# Altium schematic symbol library kmilo17pet-NSC_Switcher.SchLib: 2226 symbols (part 33 of 59)
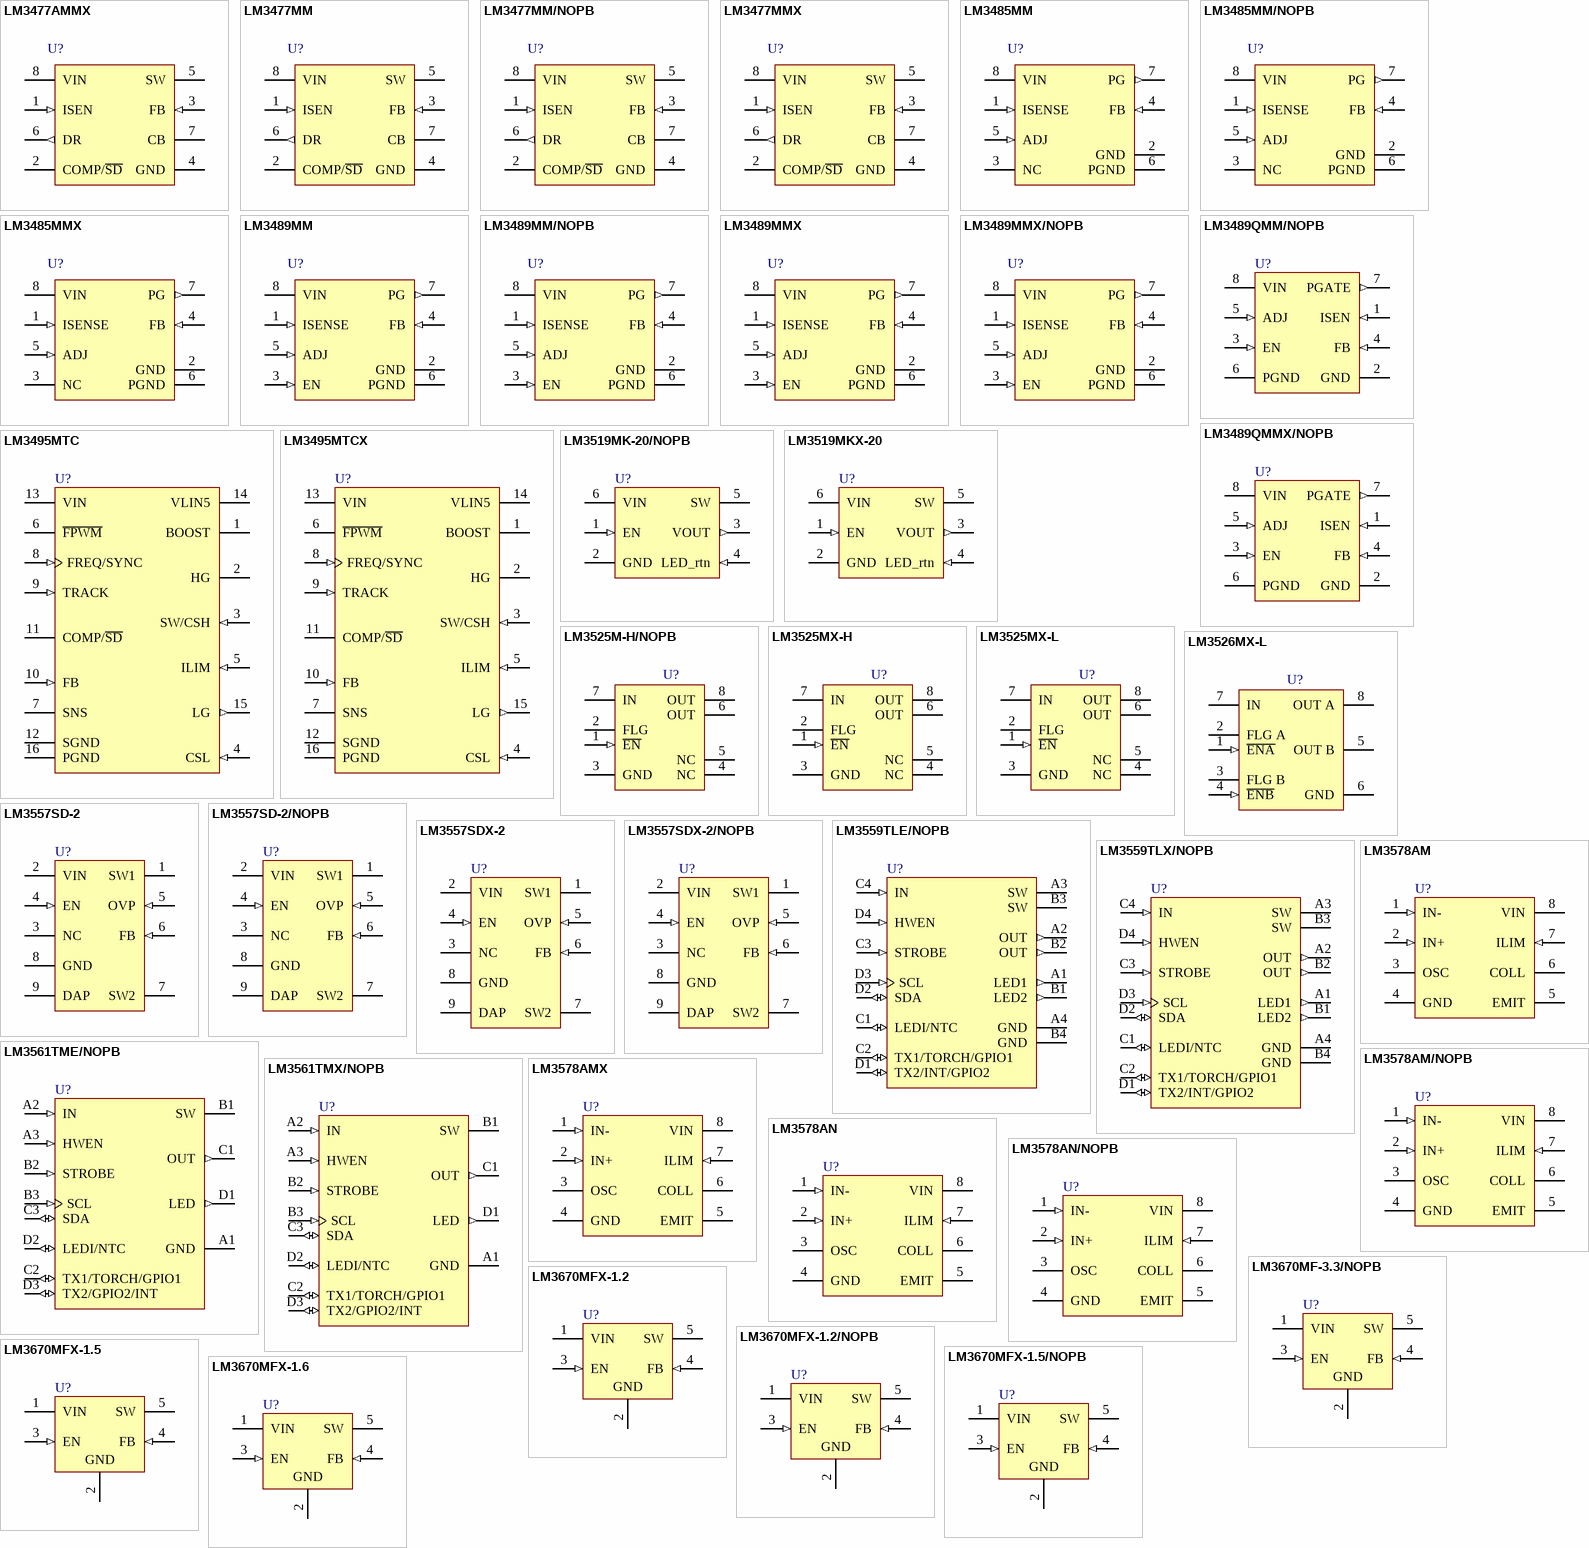
[diagram p101: symbols LM3477AMMX to LM3670MFX-1.6]

## LM3519MKX-20
designator U?
High Frequency Boost White LED Driver with High-Speed PWM Brightness Control, 6-pin Tiny SOT23; PartNumber: LM3519MKX-20; Manufacturer: National Semiconductor; PackageTopMarking: D52B*XTT; PowerWise: Y; CompType: Switcher; DatasheetVersion: Sep-2005; PackageVersion: revE, Nov-2008; PackageReference: MK06A; PackageDescription: Molded TSOT, 2.97 x 1.65 x 0.87mm Body, 6 Lead, 0.95mm Pitch; RoHS: N; PinCount: 6; High-Reliability: Y; Code_JEDEC: MO-193-AA; Code_IPC: SOT26A-6; ComponentLink1Description: Manufacturer URL; ComponentLink1URL: http://www.national.com/; ComponentLink2Description: LM3519 Datasheet; ComponentLink2URL: http://www.national.com/ds/LM/LM3519.pdf; ComponentLink3Description: LM3519 Web Page; ComponentLink3URL: http://www.national.com/pf/LM/LM3519.html; ComponentLink4Description: MK06A Package Page; ComponentLink4URL: http://www.national.com/packaging/folders/mk06a.html
footprint MK06A_N (SOT23, 6-Leads, Body 3.0x1.7mm, Pitch 0.95mm, Lead Span 2.9mm, IPC Medium Density)
footprint MK06A_L (SOT23, 6-Leads, Body 3.0x1.7mm, Pitch 0.95mm, Lead Span 2.9mm, IPC High Density)
footprint MK06A_M (SOT23, 6-Leads, Body 3.0x1.7mm, Pitch 0.95mm, Lead Span 2.9mm, IPC Low Density)
pins: 1 EN (in), 2 GND (power), 3 VOUT (out), 4 LED_rtn (in), 5 SW (power), 6 VIN (power)

## LM3525M-H/NOPB
designator U?
Single Port USB Power Switch and Over-current Protection, 8-pin Narrow SOIC, Pb-Free; PartNumber: LM3525M-H/NOPB; Manufacturer: National Semiconductor; PackageTopMarking: NSZXTT*3525*M-H; PowerWise: N; CompType: Switcher; High-Reliability: Y; DatasheetVersion: Mar-2005; PackageVersion: revM, May-2009; PackageReference: M08A; PackageDescription: SOIC Narrow, 4.9 x 3.9 x 1.45mm, 8 Lead, 1.27mm Pitch; RoHS: Y; PinCount: 8; Code_JEDEC: MS-012-AA; Code_IPC: SOIC127P600-8; ComponentLink1Description: Manufacturer URL; ComponentLink1URL: http://www.national.com/; ComponentLink2Description: LM3525 Datasheet; ComponentLink2URL: http://www.national.com/ds/LM/LM3525.pdf; ComponentLink3Description: LM3525 Web Page; ComponentLink3URL: http://www.national.com/pf/LM/LM3525.html; ComponentLink4Description: M08A Package Page; ComponentLink4URL: http://www.national.com/packaging/folders/m08a.html
footprint M08A_N (SOIC, 8-Leads, Body 4.9x3.9mm, Pitch 1.27mm, IPC Medium Density)
footprint M08A_L (SOIC, 8-Leads, Body 4.9x3.9mm, Pitch 1.27mm, IPC High Density)
footprint M08A_M (SOIC, 8-Leads, Body 4.9x3.9mm, Pitch 1.27mm, IPC Low Density)
pins: 1 ~{EN} (in), 2 FLG (oc), 3 GND (power), 4 NC, 5 NC, 6 OUT (power), 7 IN (power), 8 OUT (power)

## LM3525MX-H
designator U?
Single Port USB Power Switch and Over-current Protection, 8-pin Narrow SOIC; PartNumber: LM3525MX-H; Manufacturer: National Semiconductor; PackageTopMarking: NSZXTT*3525*M-H; PowerWise: N; CompType: Switcher; High-Reliability: Y; DatasheetVersion: Mar-2005; PackageVersion: revM, May-2009; PackageReference: M08A; PackageDescription: SOIC Narrow, 4.9 x 3.9 x 1.45mm, 8 Lead, 1.27mm Pitch; RoHS: N; PinCount: 8; Code_JEDEC: MS-012-AA; Code_IPC: SOIC127P600-8; ComponentLink1Description: Manufacturer URL; ComponentLink1URL: http://www.national.com/; ComponentLink2Description: LM3525 Datasheet; ComponentLink2URL: http://www.national.com/ds/LM/LM3525.pdf; ComponentLink3Description: LM3525 Web Page; ComponentLink3URL: http://www.national.com/pf/LM/LM3525.html; ComponentLink4Description: M08A Package Page; ComponentLink4URL: http://www.national.com/packaging/folders/m08a.html
footprint M08A_N (SOIC, 8-Leads, Body 4.9x3.9mm, Pitch 1.27mm, IPC Medium Density)
footprint M08A_L (SOIC, 8-Leads, Body 4.9x3.9mm, Pitch 1.27mm, IPC High Density)
footprint M08A_M (SOIC, 8-Leads, Body 4.9x3.9mm, Pitch 1.27mm, IPC Low Density)
pins: 1 ~{EN} (in), 2 FLG (oc), 3 GND (power), 4 NC, 5 NC, 6 OUT (power), 7 IN (power), 8 OUT (power)

## LM3525MX-L
designator U?
Single Port USB Power Switch and Over-current Protection, 8-pin Narrow SOIC; PartNumber: LM3525MX-L; Manufacturer: National Semiconductor; PackageTopMarking: NSZXTT*3525*M-L; PowerWise: N; CompType: Switcher; High-Reliability: Y; DatasheetVersion: Mar-2005; PackageVersion: revM, May-2009; PackageReference: M08A; PackageDescription: SOIC Narrow, 4.9 x 3.9 x 1.45mm, 8 Lead, 1.27mm Pitch; RoHS: N; PinCount: 8; Code_JEDEC: MS-012-AA; Code_IPC: SOIC127P600-8; ComponentLink1Description: Manufacturer URL; ComponentLink1URL: http://www.national.com/; ComponentLink2Description: LM3525 Datasheet; ComponentLink2URL: http://www.national.com/ds/LM/LM3525.pdf; ComponentLink3Description: LM3525 Web Page; ComponentLink3URL: http://www.national.com/pf/LM/LM3525.html; ComponentLink4Description: M08A Package Page; ComponentLink4URL: http://www.national.com/packaging/folders/m08a.html
footprint M08A_N (SOIC, 8-Leads, Body 4.9x3.9mm, Pitch 1.27mm, IPC Medium Density)
footprint M08A_L (SOIC, 8-Leads, Body 4.9x3.9mm, Pitch 1.27mm, IPC High Density)
footprint M08A_M (SOIC, 8-Leads, Body 4.9x3.9mm, Pitch 1.27mm, IPC Low Density)
pins: 1 ~{EN} (in), 2 FLG (oc), 3 GND (power), 4 NC, 5 NC, 6 OUT (power), 7 IN (power), 8 OUT (power)

## LM3526MX-L
designator U?
Dual Port USB Power Switch and Over-current Protection, 8-pin Narrow SOIC; PartNumber: LM3526MX-L; Manufacturer: National Semiconductor; PackageTopMarking: NSZXTT*3526*M-L; PowerWise: N; CompType: Switcher; High-Reliability: Y; DatasheetVersion: Mar-2005; PackageVersion: revM, May-2009; PackageReference: M08A; PackageDescription: SOIC Narrow, 4.9 x 3.9 x 1.45mm, 8 Lead, 1.27mm Pitch; RoHS: N; PinCount: 8; Code_JEDEC: MS-012-AA; Code_IPC: SOIC127P600-8; ComponentLink1Description: Manufacturer URL; ComponentLink1URL: http://www.national.com/; ComponentLink2Description: LM3526 Datasheet; ComponentLink2URL: http://www.national.com/ds/LM/LM3526.pdf; ComponentLink3Description: LM3526 Web Page; ComponentLink3URL: http://www.national.com/pf/LM/LM3526.html; ComponentLink4Description: M08A Package Page; ComponentLink4URL: http://www.national.com/packaging/folders/m08a.html
footprint M08A_N (SOIC, 8-Leads, Body 4.9x3.9mm, Pitch 1.27mm, IPC Medium Density)
footprint M08A_L (SOIC, 8-Leads, Body 4.9x3.9mm, Pitch 1.27mm, IPC High Density)
footprint M08A_M (SOIC, 8-Leads, Body 4.9x3.9mm, Pitch 1.27mm, IPC Low Density)
pins: 1 ~{ENA} (in), 2 FLG A (oc), 3 FLG B (oc), 4 ~{ENB} (in), 5 OUT B (power), 6 GND (power), 7 IN (power), 8 OUT A (power)

## LM3557SD-2
designator U?
Step-Up Converter for White LED Applications, 8-pin LLP; PartNumber: LM3557SD-2; Manufacturer: National Semiconductor; PackageTopMarking: ZXYTT*L147B; PowerWise: Y; CompType: Switcher; DatasheetVersion: May-2000; PackageVersion: revA, Aug-2003; PackageReference: SDA08A; PackageDescription: LLP, Plastic, Dual, 3 x 3 x 0.8mm Body, 8 Lead, 0.5mm Pitch, No Pullback; RoHS: N; PinCount: 8; High-Reliability: Y; ComponentLink1Description: Manufacturer URL; ComponentLink1URL: http://www.national.com/; ComponentLink2Description: LM3557 Datasheet; ComponentLink2URL: http://www.national.com/ds/LM/LM3557.pdf; ComponentLink3Description: LM3557 Web Page; ComponentLink3URL: http://www.national.com/pf/LM/LM3557.html; ComponentLink4Description: SDA08A Package Page; ComponentLink4URL: http://www.national.com/packaging/folders/sda08a.html
footprint SDA08A (SON, 8-Leads, Body 3x3mm, Pitch 0.5mm, NSC Recommended)
pins: 1 SW1 (power), 2 VIN (power), 3 NC, 4 EN (in), 5 OVP (in), 6 FB (in), 7 SW2 (power), 8 GND (power), 9 DAP (power)

## LM3557SD-2/NOPB
designator U?
Step-Up Converter for White LED Applications, 8-pin LLP, Pb-Free; PartNumber: LM3557SD-2/NOPB; Manufacturer: National Semiconductor; PackageTopMarking: ZXYTT*L147B; PowerWise: Y; CompType: Switcher; DatasheetVersion: May-2000; PackageVersion: revA, Aug-2003; PackageReference: SDA08A; PackageDescription: LLP, Plastic, Dual, 3 x 3 x 0.8mm Body, 8 Lead, 0.5mm Pitch, No Pullback; RoHS: Y; PinCount: 8; High-Reliability: Y; ComponentLink1Description: Manufacturer URL; ComponentLink1URL: http://www.national.com/; ComponentLink2Description: LM3557 Datasheet; ComponentLink2URL: http://www.national.com/ds/LM/LM3557.pdf; ComponentLink3Description: LM3557 Web Page; ComponentLink3URL: http://www.national.com/pf/LM/LM3557.html; ComponentLink4Description: SDA08A Package Page; ComponentLink4URL: http://www.national.com/packaging/folders/sda08a.html
footprint SDA08A (SON, 8-Leads, Body 3x3mm, Pitch 0.5mm, NSC Recommended)
pins: 1 SW1 (power), 2 VIN (power), 3 NC, 4 EN (in), 5 OVP (in), 6 FB (in), 7 SW2 (power), 8 GND (power), 9 DAP (power)

## LM3557SDX-2
designator U?
Step-Up Converter for White LED Applications, 8-pin LLP; PartNumber: LM3557SDX-2; Manufacturer: National Semiconductor; PackageTopMarking: ZXYTT*L147B; PowerWise: Y; CompType: Switcher; DatasheetVersion: May-2000; PackageVersion: revA, Aug-2003; PackageReference: SDA08A; PackageDescription: LLP, Plastic, Dual, 3 x 3 x 0.8mm Body, 8 Lead, 0.5mm Pitch, No Pullback; RoHS: N; PinCount: 8; High-Reliability: Y; ComponentLink1Description: Manufacturer URL; ComponentLink1URL: http://www.national.com/; ComponentLink2Description: LM3557 Datasheet; ComponentLink2URL: http://www.national.com/ds/LM/LM3557.pdf; ComponentLink3Description: LM3557 Web Page; ComponentLink3URL: http://www.national.com/pf/LM/LM3557.html; ComponentLink4Description: SDA08A Package Page; ComponentLink4URL: http://www.national.com/packaging/folders/sda08a.html
footprint SDA08A (SON, 8-Leads, Body 3x3mm, Pitch 0.5mm, NSC Recommended)
pins: 1 SW1 (power), 2 VIN (power), 3 NC, 4 EN (in), 5 OVP (in), 6 FB (in), 7 SW2 (power), 8 GND (power), 9 DAP (power)

## LM3557SDX-2/NOPB
designator U?
Step-Up Converter for White LED Applications, 8-pin LLP, Pb-Free; PartNumber: LM3557SDX-2/NOPB; Manufacturer: National Semiconductor; PackageTopMarking: ZXYTT*L147B; PowerWise: Y; CompType: Switcher; DatasheetVersion: May-2000; PackageVersion: revA, Aug-2003; PackageReference: SDA08A; PackageDescription: LLP, Plastic, Dual, 3 x 3 x 0.8mm Body, 8 Lead, 0.5mm Pitch, No Pullback; RoHS: Y; PinCount: 8; High-Reliability: Y; ComponentLink1Description: Manufacturer URL; ComponentLink1URL: http://www.national.com/; ComponentLink2Description: LM3557 Datasheet; ComponentLink2URL: http://www.national.com/ds/LM/LM3557.pdf; ComponentLink3Description: LM3557 Web Page; ComponentLink3URL: http://www.national.com/pf/LM/LM3557.html; ComponentLink4Description: SDA08A Package Page; ComponentLink4URL: http://www.national.com/packaging/folders/sda08a.html
footprint SDA08A (SON, 8-Leads, Body 3x3mm, Pitch 0.5mm, NSC Recommended)
pins: 1 SW1 (power), 2 VIN (power), 3 NC, 4 EN (in), 5 OVP (in), 6 FB (in), 7 SW2 (power), 8 GND (power), 9 DAP (power)

## LM3559TLE/NOPB
designator U?
Synchronous Boost Flash Driver with Dual 900 mA High Side Current Sources (1.8A Total Flash Current), 16-pin Micro SMD, 250 Reel; PartNumber: LM3559TLE/NOPB; Manufacturer: National Semiconductor; PackageTopMarking: XYTT*I 3559; PowerWise: N; CompType: Switcher; High-Reliability: Y; DatasheetVersion: Jun-2011; PackageVersion: revC, Jan-2004; PackageReference: TLA1611A; PackageDescription: Thin Micro SMD, 16 Bump (Large), 0.5mm Pitch; RoHS: Y; PinCount: 16; Code_JEDEC: MO-211-DF; ComponentLink1Description: Manufacturer URL; ComponentLink1URL: http://www.national.com/; ComponentLink2Description: LM3559 Datasheet; ComponentLink2URL: http://www.national.com/ds/LM/LM3559.pdf; ComponentLink3Description: LM3559 Web Page; ComponentLink3URL: http://www.national.com/pf/LM/LM3559.html; ComponentLink4Description: TLA1611A Package Page; ComponentLink4URL: http://www.national.com/packaging/folders/tla1611a.html
footprint TLA1611A (Micro SMD, 16-Leads, Body 1.97x1.97mm, Pitch 0.5mm, NSC Recommended)
pins: A1 LED1 (out), A2 OUT (out), A3 SW, A4 GND (power), B1 LED2 (out), B2 OUT (out), B3 SW, B4 GND (power), C1 LEDI/NTC (io), C2 TX1/TORCH/GPIO1 (io), C3 STROBE (in), C4 IN (in), D1 TX2/INT/GPIO2 (io), D2 SDA (io), D3 SCL (in), D4 HWEN (in)

## LM3559TLX/NOPB
designator U?
Synchronous Boost Flash Driver with Dual 900 mA High Side Current Sources (1.8A Total Flash Current), 16-pin Micro SMD, 3000 Reel; PartNumber: LM3559TLX/NOPB; Manufacturer: National Semiconductor; PackageTopMarking: XYTT*I 3559; PowerWise: N; CompType: Switcher; High-Reliability: Y; DatasheetVersion: Jun-2011; PackageVersion: revC, Jan-2004; PackageReference: TLA1611A; PackageDescription: Thin Micro SMD, 16 Bump (Large), 0.5mm Pitch; RoHS: Y; PinCount: 16; Code_JEDEC: MO-211-DF; ComponentLink1Description: Manufacturer URL; ComponentLink1URL: http://www.national.com/; ComponentLink2Description: LM3559 Datasheet; ComponentLink2URL: http://www.national.com/ds/LM/LM3559.pdf; ComponentLink3Description: LM3559 Web Page; ComponentLink3URL: http://www.national.com/pf/LM/LM3559.html; ComponentLink4Description: TLA1611A Package Page; ComponentLink4URL: http://www.national.com/packaging/folders/tla1611a.html
footprint TLA1611A (Micro SMD, 16-Leads, Body 1.97x1.97mm, Pitch 0.5mm, NSC Recommended)
pins: A1 LED1 (out), A2 OUT (out), A3 SW, A4 GND (power), B1 LED2 (out), B2 OUT (out), B3 SW, B4 GND (power), C1 LEDI/NTC (io), C2 TX1/TORCH/GPIO1 (io), C3 STROBE (in), C4 IN (in), D1 TX2/INT/GPIO2 (io), D2 SDA (io), D3 SCL (in), D4 HWEN (in)

## LM3561TME/NOPB
designator U?
Synchronous Boost Converter with 600mA High Side LED Driver and I2C-Compatible Interface, 12-pin Micro SMD, 250 Reel; PartNumber: LM3561TME/NOPB; Manufacturer: National Semiconductor; PackageTopMarking: XV*I DV; PowerWise: N; CompType: Switcher; High-Reliability: Y; DatasheetVersion: Jun-2011; PackageVersion: revA, 2008; PackageReference: TMD12AAA; PackageDescription: Thin Micro SMD, 12 Bump, 0.4mm Pitch; RoHS: Y; PinCount: 12; ComponentLink1Description: Manufacturer URL; ComponentLink1URL: http://www.national.com/; ComponentLink2Description: LM3561 Datasheet; ComponentLink2URL: http://www.national.com/ds/LM/LM3561.pdf; ComponentLink3Description: LM3561 Web Page; ComponentLink3URL: http://www.national.com/pf/LM/LM3561.html; ComponentLink4Description: TMD12AAA Package Page; ComponentLink4URL: http://www.national.com/packaging/folders/tmd12aaa.html
footprint TMD12AAA (Micro SMD, 12-Leads, Body 1.62x1.22mm, Pitch 0.4mm, NSC Recommended)
pins: A1 GND (power), A2 IN (in), A3 HWEN (in), B1 SW, B2 STROBE (in), B3 SCL (in), C1 OUT (out), C2 TX1/TORCH/GPIO1 (io), C3 SDA (io), D1 LED (out), D2 LEDI/NTC (io), D3 TX2/GPIO2/INT (io)

## LM3561TMX/NOPB
designator U?
Synchronous Boost Converter with 600mA High Side LED Driver and I2C-Compatible Interface, 12-pin Micro SMD, 3000 Reel; PartNumber: LM3561TMX/NOPB; Manufacturer: National Semiconductor; PackageTopMarking: XV*I DV; PowerWise: N; CompType: Switcher; High-Reliability: Y; DatasheetVersion: Jun-2011; PackageVersion: revA, 2008; PackageReference: TMD12AAA; PackageDescription: Thin Micro SMD, 12 Bump, 0.4mm Pitch; RoHS: Y; PinCount: 12; ComponentLink1Description: Manufacturer URL; ComponentLink1URL: http://www.national.com/; ComponentLink2Description: LM3561 Datasheet; ComponentLink2URL: http://www.national.com/ds/LM/LM3561.pdf; ComponentLink3Description: LM3561 Web Page; ComponentLink3URL: http://www.national.com/pf/LM/LM3561.html; ComponentLink4Description: TMD12AAA Package Page; ComponentLink4URL: http://www.national.com/packaging/folders/tmd12aaa.html
footprint TMD12AAA (Micro SMD, 12-Leads, Body 1.62x1.22mm, Pitch 0.4mm, NSC Recommended)
pins: A1 GND (power), A2 IN (in), A3 HWEN (in), B1 SW, B2 STROBE (in), B3 SCL (in), C1 OUT (out), C2 TX1/TORCH/GPIO1 (io), C3 SDA (io), D1 LED (out), D2 LEDI/NTC (io), D3 TX2/GPIO2/INT (io)

## LM3578AM
designator U?
Switching Regulator, 8-pin Narrow SOIC; PartNumber: LM3578AM; Manufacturer: National Semiconductor; PackageTopMarking: NSZXTT*3578*AM; PowerWise: N; CompType: Switcher; High-Reliability: Y; DatasheetVersion: Feb-2005; PackageVersion: revM, May-2009; PackageReference: M08A; PackageDescription: SOIC Narrow, 4.9 x 3.9 x 1.45mm, 8 Lead, 1.27mm Pitch; RoHS: N; PinCount: 8; Code_JEDEC: MS-012-AA; Code_IPC: SOIC127P600-8; ComponentLink1Description: Manufacturer URL; ComponentLink1URL: http://www.national.com/; ComponentLink2Description: LM3578A Datasheet; ComponentLink2URL: http://www.national.com/ds/LM/LM3578A.pdf; ComponentLink3Description: LM3578A Web Page; ComponentLink3URL: http://www.national.com/pf/LM/LM3578A.html; ComponentLink4Description: M08A Package Page; ComponentLink4URL: http://www.national.com/packaging/folders/m08a.html
footprint M08A_N (SOIC, 8-Leads, Body 4.9x3.9mm, Pitch 1.27mm, IPC Medium Density)
footprint M08A_L (SOIC, 8-Leads, Body 4.9x3.9mm, Pitch 1.27mm, IPC High Density)
footprint M08A_M (SOIC, 8-Leads, Body 4.9x3.9mm, Pitch 1.27mm, IPC Low Density)
pins: 1 IN- (in), 2 IN+ (in), 3 OSC, 4 GND (power), 5 EMIT (oe), 6 COLL (oc), 7 ILIM (in), 8 VIN (power)

## LM3578AM/NOPB
designator U?
Switching Regulator, 8-pin Narrow SOIC, Pb-Free; PartNumber: LM3578AM/NOPB; Manufacturer: National Semiconductor; PackageTopMarking: NSZXTT*3578*AM; PowerWise: N; CompType: Switcher; High-Reliability: Y; DatasheetVersion: Feb-2005; PackageVersion: revM, May-2009; PackageReference: M08A; PackageDescription: SOIC Narrow, 4.9 x 3.9 x 1.45mm, 8 Lead, 1.27mm Pitch; RoHS: Y; PinCount: 8; Code_JEDEC: MS-012-AA; Code_IPC: SOIC127P600-8; ComponentLink1Description: Manufacturer URL; ComponentLink1URL: http://www.national.com/; ComponentLink2Description: LM3578A Datasheet; ComponentLink2URL: http://www.national.com/ds/LM/LM3578A.pdf; ComponentLink3Description: LM3578A Web Page; ComponentLink3URL: http://www.national.com/pf/LM/LM3578A.html; ComponentLink4Description: M08A Package Page; ComponentLink4URL: http://www.national.com/packaging/folders/m08a.html
footprint M08A_N (SOIC, 8-Leads, Body 4.9x3.9mm, Pitch 1.27mm, IPC Medium Density)
footprint M08A_L (SOIC, 8-Leads, Body 4.9x3.9mm, Pitch 1.27mm, IPC High Density)
footprint M08A_M (SOIC, 8-Leads, Body 4.9x3.9mm, Pitch 1.27mm, IPC Low Density)
pins: 1 IN- (in), 2 IN+ (in), 3 OSC, 4 GND (power), 5 EMIT (oe), 6 COLL (oc), 7 ILIM (in), 8 VIN (power)

## LM3578AMX
designator U?
Switching Regulator, 8-pin Narrow SOIC; PartNumber: LM3578AMX; Manufacturer: National Semiconductor; PackageTopMarking: NSZXTT*3578*AM; PowerWise: N; CompType: Switcher; High-Reliability: Y; DatasheetVersion: Feb-2005; PackageVersion: revM, May-2009; PackageReference: M08A; PackageDescription: SOIC Narrow, 4.9 x 3.9 x 1.45mm, 8 Lead, 1.27mm Pitch; RoHS: N; PinCount: 8; Code_JEDEC: MS-012-AA; Code_IPC: SOIC127P600-8; ComponentLink1Description: Manufacturer URL; ComponentLink1URL: http://www.national.com/; ComponentLink2Description: LM3578A Datasheet; ComponentLink2URL: http://www.national.com/ds/LM/LM3578A.pdf; ComponentLink3Description: LM3578A Web Page; ComponentLink3URL: http://www.national.com/pf/LM/LM3578A.html; ComponentLink4Description: M08A Package Page; ComponentLink4URL: http://www.national.com/packaging/folders/m08a.html
footprint M08A_N (SOIC, 8-Leads, Body 4.9x3.9mm, Pitch 1.27mm, IPC Medium Density)
footprint M08A_L (SOIC, 8-Leads, Body 4.9x3.9mm, Pitch 1.27mm, IPC High Density)
footprint M08A_M (SOIC, 8-Leads, Body 4.9x3.9mm, Pitch 1.27mm, IPC Low Density)
pins: 1 IN- (in), 2 IN+ (in), 3 OSC, 4 GND (power), 5 EMIT (oe), 6 COLL (oc), 7 ILIM (in), 8 VIN (power)

## LM3578AN
designator U?
Switching Regulator, 8-pin MDIP; PartNumber: LM3578AN; Manufacturer: National Semiconductor; PackageTopMarking: NSUZXYTTE#*LM3578AN; PowerWise: N; CompType: Switcher; High-Reliability: Y; DatasheetVersion: Feb-2005; PackageVersion: revG, May-2006; PackageReference: N08E; PackageDescription: MDIP, .365 x .250 x .130in, 8 Lead, .100in Pitch; RoHS: N; PinCount: 8; Code_JEDEC: MS-001-BA; ComponentLink1Description: Manufacturer URL; ComponentLink1URL: http://www.national.com/; ComponentLink2Description: LM3578A Datasheet; ComponentLink2URL: http://www.national.com/ds/LM/LM3578A.pdf; ComponentLink3Description: LM3578A Web Page; ComponentLink3URL: http://www.national.com/pf/LM/LM3578A.html; ComponentLink4Description: N08E Package Page; ComponentLink4URL: http://www.national.com/packaging/folders/n08e.html
footprint N08E (DIP, 8-Leads, Row Spacing 7.62mm, Pitch 2.54mm, Body 9.91x6.35mm)
pins: 1 IN- (in), 2 IN+ (in), 3 OSC, 4 GND (power), 5 EMIT (oe), 6 COLL (oc), 7 ILIM (in), 8 VIN (power)

## LM3578AN/NOPB
designator U?
Switching Regulator, 8-pin MDIP, Pb-Free; PartNumber: LM3578AN/NOPB; Manufacturer: National Semiconductor; PackageTopMarking: NSUZXYTTE#*LM3578AN; PowerWise: N; CompType: Switcher; High-Reliability: Y; DatasheetVersion: Feb-2005; PackageVersion: revG, May-2006; PackageReference: N08E; PackageDescription: MDIP, .365 x .250 x .130in, 8 Lead, .100in Pitch; RoHS: Y; PinCount: 8; Code_JEDEC: MS-001-BA; ComponentLink1Description: Manufacturer URL; ComponentLink1URL: http://www.national.com/; ComponentLink2Description: LM3578A Datasheet; ComponentLink2URL: http://www.national.com/ds/LM/LM3578A.pdf; ComponentLink3Description: LM3578A Web Page; ComponentLink3URL: http://www.national.com/pf/LM/LM3578A.html; ComponentLink4Description: N08E Package Page; ComponentLink4URL: http://www.national.com/packaging/folders/n08e.html
footprint N08E (DIP, 8-Leads, Row Spacing 7.62mm, Pitch 2.54mm, Body 9.91x6.35mm)
pins: 1 IN- (in), 2 IN+ (in), 3 OSC, 4 GND (power), 5 EMIT (oe), 6 COLL (oc), 7 ILIM (in), 8 VIN (power)

## LM3670MF-3.3/NOPB
designator U?
Miniature Step-Down DC-DC Converter for Ultra Low Voltage Circuits, 5-pin SOT-23, Pb-Free; PartNumber: LM3670MF-3.3/NOPB; Manufacturer: National Semiconductor; PackageTopMarking: SDEB*XTT; PowerWise: Y; CompType: Switcher; DatasheetVersion: Jan-2006; PackageVersion: revD, Aug-2008; PackageReference: MF05A; PackageDescription: Molded SOT-23, .115 x .063 x .040 in Body, 5 Lead, .0375 in Pitch; RoHS: Y; PinCount: 5; High-Reliability: Y; ComponentLink1Description: Manufacturer URL; ComponentLink1URL: http://www.national.com/; ComponentLink2Description: LM3670 Datasheet; ComponentLink2URL: http://www.national.com/ds/LM/LM3670.pdf; ComponentLink3Description: LM3670 Web Page; ComponentLink3URL: http://www.national.com/pf/LM/LM3670.html; ComponentLink4Description: MF05A Package Page; ComponentLink4URL: http://www.national.com/packaging/folders/mf05a.html
footprint MF05A_N (SOT23, 5-Leads, Body 2.9x1.6mm, Pitch 0.95mm, Lead Span 2.8mm, IPC Medium Density)
footprint MF05A_L (SOT23, 5-Leads, Body 2.9x1.6mm, Pitch 0.95mm, Lead Span 2.8mm, IPC High Density)
footprint MF05A_M (SOT23, 5-Leads, Body 2.9x1.6mm, Pitch 0.95mm, Lead Span 2.8mm, IPC Low Density)
pins: 1 VIN (power), 2 GND (power), 3 EN (in), 4 FB (in), 5 SW (power)

## LM3670MFX-1.2
designator U?
Miniature Step-Down DC-DC Converter for Ultra Low Voltage Circuits, 5-pin SOT-23; PartNumber: LM3670MFX-1.2; Manufacturer: National Semiconductor; PackageTopMarking: SCZB*XTT; PowerWise: Y; CompType: Switcher; DatasheetVersion: Jan-2006; PackageVersion: revD, Aug-2008; PackageReference: MF05A; PackageDescription: Molded SOT-23, .115 x .063 x .040 in Body, 5 Lead, .0375 in Pitch; RoHS: N; PinCount: 5; High-Reliability: Y; ComponentLink1Description: Manufacturer URL; ComponentLink1URL: http://www.national.com/; ComponentLink2Description: LM3670 Datasheet; ComponentLink2URL: http://www.national.com/ds/LM/LM3670.pdf; ComponentLink3Description: LM3670 Web Page; ComponentLink3URL: http://www.national.com/pf/LM/LM3670.html; ComponentLink4Description: MF05A Package Page; ComponentLink4URL: http://www.national.com/packaging/folders/mf05a.html
footprint MF05A_N (SOT23, 5-Leads, Body 2.9x1.6mm, Pitch 0.95mm, Lead Span 2.8mm, IPC Medium Density)
footprint MF05A_L (SOT23, 5-Leads, Body 2.9x1.6mm, Pitch 0.95mm, Lead Span 2.8mm, IPC High Density)
footprint MF05A_M (SOT23, 5-Leads, Body 2.9x1.6mm, Pitch 0.95mm, Lead Span 2.8mm, IPC Low Density)
pins: 1 VIN (power), 2 GND (power), 3 EN (in), 4 FB (in), 5 SW (power)

## LM3670MFX-1.2/NOPB
designator U?
Miniature Step-Down DC-DC Converter for Ultra Low Voltage Circuits, 5-pin SOT-23, Pb-Free; PartNumber: LM3670MFX-1.2/NOPB; Manufacturer: National Semiconductor; PackageTopMarking: SCZB*XTT; PowerWise: Y; CompType: Switcher; DatasheetVersion: Jan-2006; PackageVersion: revD, Aug-2008; PackageReference: MF05A; PackageDescription: Molded SOT-23, .115 x .063 x .040 in Body, 5 Lead, .0375 in Pitch; RoHS: Y; PinCount: 5; High-Reliability: Y; ComponentLink1Description: Manufacturer URL; ComponentLink1URL: http://www.national.com/; ComponentLink2Description: LM3670 Datasheet; ComponentLink2URL: http://www.national.com/ds/LM/LM3670.pdf; ComponentLink3Description: LM3670 Web Page; ComponentLink3URL: http://www.national.com/pf/LM/LM3670.html; ComponentLink4Description: MF05A Package Page; ComponentLink4URL: http://www.national.com/packaging/folders/mf05a.html
footprint MF05A_N (SOT23, 5-Leads, Body 2.9x1.6mm, Pitch 0.95mm, Lead Span 2.8mm, IPC Medium Density)
footprint MF05A_L (SOT23, 5-Leads, Body 2.9x1.6mm, Pitch 0.95mm, Lead Span 2.8mm, IPC High Density)
footprint MF05A_M (SOT23, 5-Leads, Body 2.9x1.6mm, Pitch 0.95mm, Lead Span 2.8mm, IPC Low Density)
pins: 1 VIN (power), 2 GND (power), 3 EN (in), 4 FB (in), 5 SW (power)

## LM3670MFX-1.5
designator U?
Miniature Step-Down DC-DC Converter for Ultra Low Voltage Circuits, 5-pin SOT-23; PartNumber: LM3670MFX-1.5; Manufacturer: National Semiconductor; PackageTopMarking: S82B*XTT; PowerWise: Y; CompType: Switcher; DatasheetVersion: Jan-2006; PackageVersion: revD, Aug-2008; PackageReference: MF05A; PackageDescription: Molded SOT-23, .115 x .063 x .040 in Body, 5 Lead, .0375 in Pitch; RoHS: N; PinCount: 5; High-Reliability: Y; ComponentLink1Description: Manufacturer URL; ComponentLink1URL: http://www.national.com/; ComponentLink2Description: LM3670 Datasheet; ComponentLink2URL: http://www.national.com/ds/LM/LM3670.pdf; ComponentLink3Description: LM3670 Web Page; ComponentLink3URL: http://www.national.com/pf/LM/LM3670.html; ComponentLink4Description: MF05A Package Page; ComponentLink4URL: http://www.national.com/packaging/folders/mf05a.html
footprint MF05A_N (SOT23, 5-Leads, Body 2.9x1.6mm, Pitch 0.95mm, Lead Span 2.8mm, IPC Medium Density)
footprint MF05A_L (SOT23, 5-Leads, Body 2.9x1.6mm, Pitch 0.95mm, Lead Span 2.8mm, IPC High Density)
footprint MF05A_M (SOT23, 5-Leads, Body 2.9x1.6mm, Pitch 0.95mm, Lead Span 2.8mm, IPC Low Density)
pins: 1 VIN (power), 2 GND (power), 3 EN (in), 4 FB (in), 5 SW (power)

## LM3670MFX-1.5/NOPB
designator U?
Miniature Step-Down DC-DC Converter for Ultra Low Voltage Circuits, 5-pin SOT-23, Pb-Free; PartNumber: LM3670MFX-1.5/NOPB; Manufacturer: National Semiconductor; PackageTopMarking: S82B*XTT; PowerWise: Y; CompType: Switcher; DatasheetVersion: Jan-2006; PackageVersion: revD, Aug-2008; PackageReference: MF05A; PackageDescription: Molded SOT-23, .115 x .063 x .040 in Body, 5 Lead, .0375 in Pitch; RoHS: Y; PinCount: 5; High-Reliability: Y; ComponentLink1Description: Manufacturer URL; ComponentLink1URL: http://www.national.com/; ComponentLink2Description: LM3670 Datasheet; ComponentLink2URL: http://www.national.com/ds/LM/LM3670.pdf; ComponentLink3Description: LM3670 Web Page; ComponentLink3URL: http://www.national.com/pf/LM/LM3670.html; ComponentLink4Description: MF05A Package Page; ComponentLink4URL: http://www.national.com/packaging/folders/mf05a.html
footprint MF05A_N (SOT23, 5-Leads, Body 2.9x1.6mm, Pitch 0.95mm, Lead Span 2.8mm, IPC Medium Density)
footprint MF05A_L (SOT23, 5-Leads, Body 2.9x1.6mm, Pitch 0.95mm, Lead Span 2.8mm, IPC High Density)
footprint MF05A_M (SOT23, 5-Leads, Body 2.9x1.6mm, Pitch 0.95mm, Lead Span 2.8mm, IPC Low Density)
pins: 1 VIN (power), 2 GND (power), 3 EN (in), 4 FB (in), 5 SW (power)

## LM3670MFX-1.6
designator U?
Miniature Step-Down DC-DC Converter for Ultra Low Voltage Circuits, 5-pin SOT-23; PartNumber: LM3670MFX-1.6; Manufacturer: National Semiconductor; PackageTopMarking: SDBB*XTT; PowerWise: Y; CompType: Switcher; DatasheetVersion: Jan-2006; PackageVersion: revD, Aug-2008; PackageReference: MF05A; PackageDescription: Molded SOT-23, .115 x .063 x .040 in Body, 5 Lead, .0375 in Pitch; RoHS: N; PinCount: 5; High-Reliability: Y; ComponentLink1Description: Manufacturer URL; ComponentLink1URL: http://www.national.com/; ComponentLink2Description: LM3670 Datasheet; ComponentLink2URL: http://www.national.com/ds/LM/LM3670.pdf; ComponentLink3Description: LM3670 Web Page; ComponentLink3URL: http://www.national.com/pf/LM/LM3670.html; ComponentLink4Description: MF05A Package Page; ComponentLink4URL: http://www.national.com/packaging/folders/mf05a.html
footprint MF05A_N (SOT23, 5-Leads, Body 2.9x1.6mm, Pitch 0.95mm, Lead Span 2.8mm, IPC Medium Density)
footprint MF05A_L (SOT23, 5-Leads, Body 2.9x1.6mm, Pitch 0.95mm, Lead Span 2.8mm, IPC High Density)
footprint MF05A_M (SOT23, 5-Leads, Body 2.9x1.6mm, Pitch 0.95mm, Lead Span 2.8mm, IPC Low Density)
pins: 1 VIN (power), 2 GND (power), 3 EN (in), 4 FB (in), 5 SW (power)

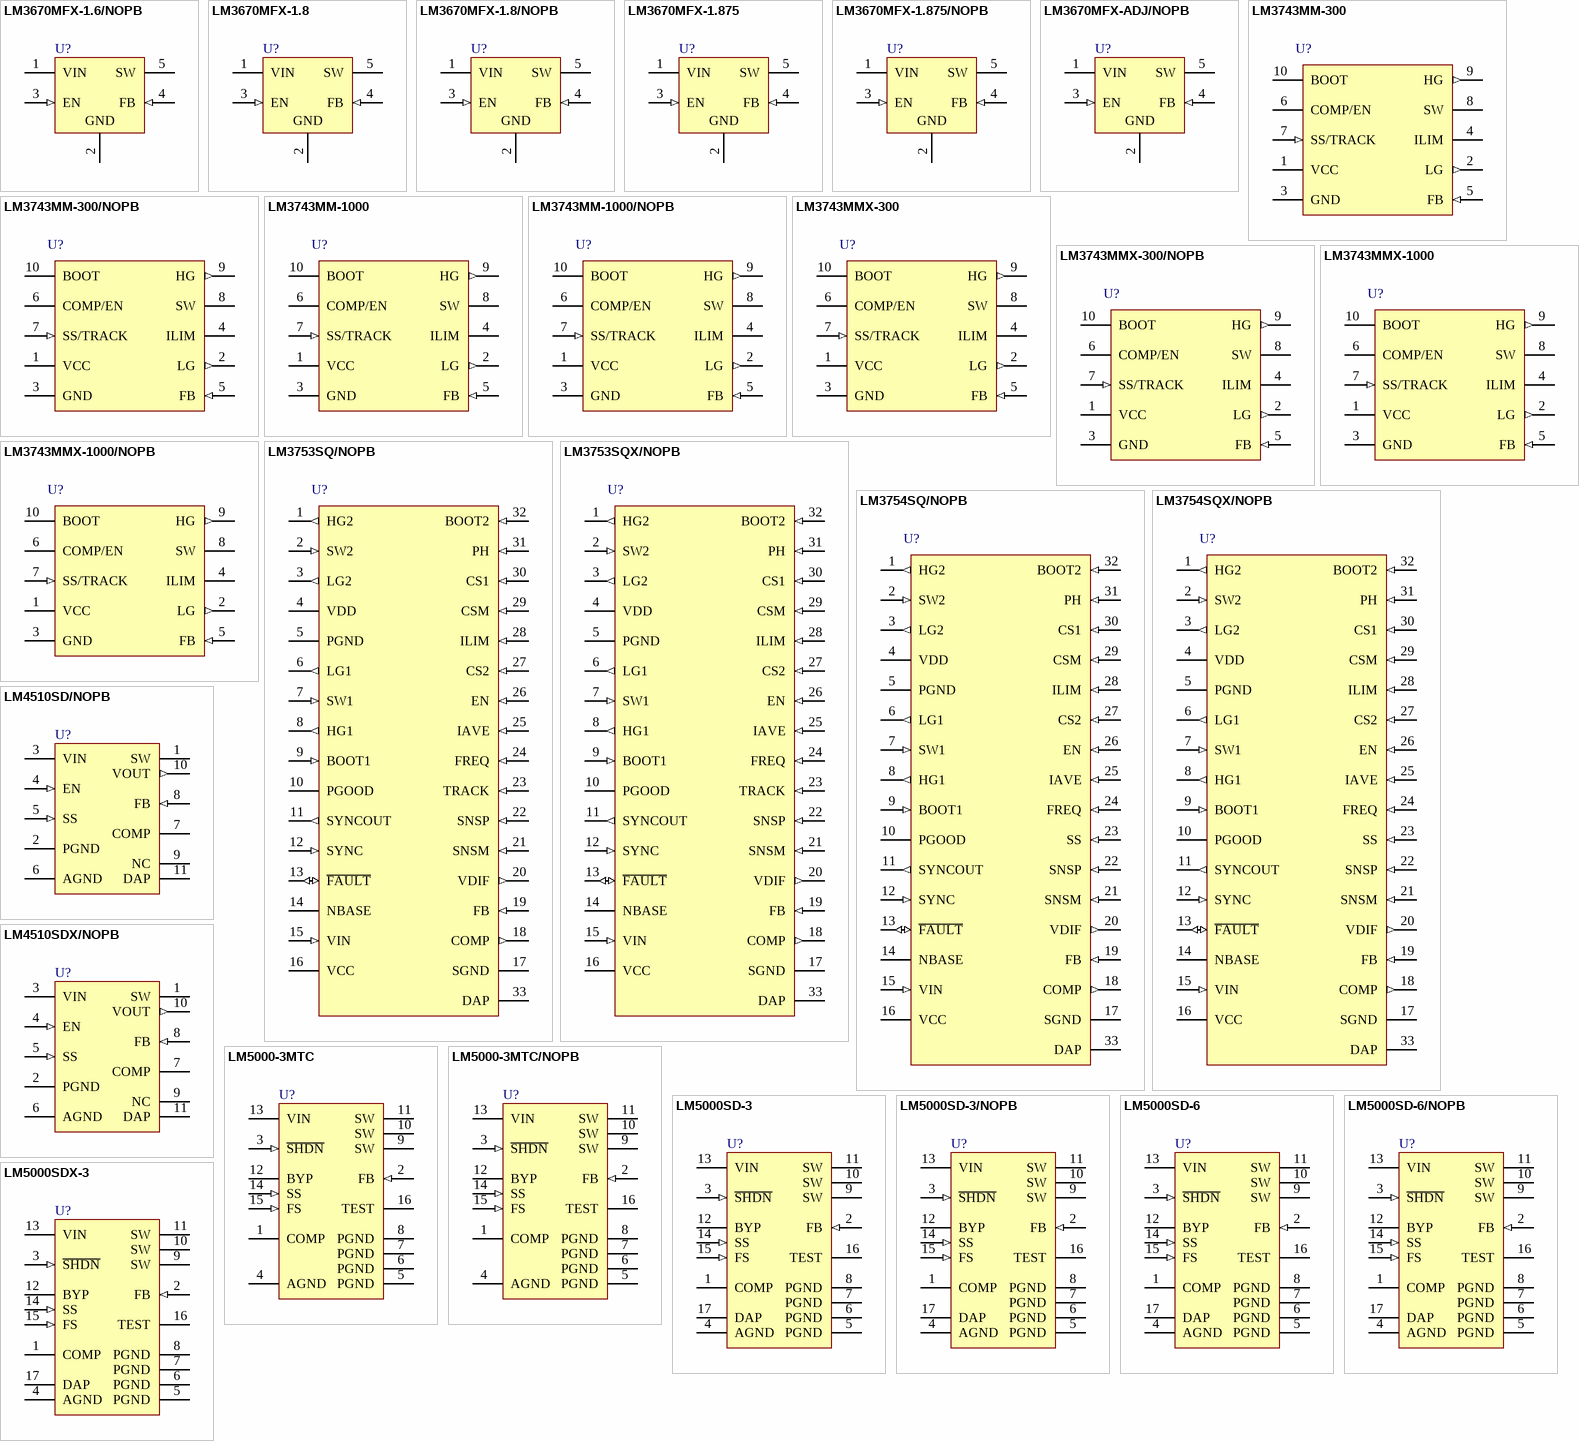
[diagram p36: symbols LM3670MFX-1.6/NOPB to LM5000SDX-3]

## LM3670MFX-1.6/NOPB
designator U?
Miniature Step-Down DC-DC Converter for Ultra Low Voltage Circuits, 5-pin SOT-23, Pb-Free; PartNumber: LM3670MFX-1.6/NOPB; Manufacturer: National Semiconductor; PackageTopMarking: SDBB*XTT; PowerWise: Y; CompType: Switcher; DatasheetVersion: Jan-2006; PackageVersion: revD, Aug-2008; PackageReference: MF05A; PackageDescription: Molded SOT-23, .115 x .063 x .040 in Body, 5 Lead, .0375 in Pitch; RoHS: Y; PinCount: 5; High-Reliability: Y; ComponentLink1Description: Manufacturer URL; ComponentLink1URL: http://www.national.com/; ComponentLink2Description: LM3670 Datasheet; ComponentLink2URL: http://www.national.com/ds/LM/LM3670.pdf; ComponentLink3Description: LM3670 Web Page; ComponentLink3URL: http://www.national.com/pf/LM/LM3670.html; ComponentLink4Description: MF05A Package Page; ComponentLink4URL: http://www.national.com/packaging/folders/mf05a.html
footprint MF05A_N (SOT23, 5-Leads, Body 2.9x1.6mm, Pitch 0.95mm, Lead Span 2.8mm, IPC Medium Density)
footprint MF05A_L (SOT23, 5-Leads, Body 2.9x1.6mm, Pitch 0.95mm, Lead Span 2.8mm, IPC High Density)
footprint MF05A_M (SOT23, 5-Leads, Body 2.9x1.6mm, Pitch 0.95mm, Lead Span 2.8mm, IPC Low Density)
pins: 1 VIN (power), 2 GND (power), 3 EN (in), 4 FB (in), 5 SW (power)

## LM3670MFX-1.8
designator U?
Miniature Step-Down DC-DC Converter for Ultra Low Voltage Circuits, 5-pin SOT-23; PartNumber: LM3670MFX-1.8; Manufacturer: National Semiconductor; PackageTopMarking: SDCB*XTT; PowerWise: Y; CompType: Switcher; DatasheetVersion: Jan-2006; PackageVersion: revD, Aug-2008; PackageReference: MF05A; PackageDescription: Molded SOT-23, .115 x .063 x .040 in Body, 5 Lead, .0375 in Pitch; RoHS: N; PinCount: 5; High-Reliability: Y; ComponentLink1Description: Manufacturer URL; ComponentLink1URL: http://www.national.com/; ComponentLink2Description: LM3670 Datasheet; ComponentLink2URL: http://www.national.com/ds/LM/LM3670.pdf; ComponentLink3Description: LM3670 Web Page; ComponentLink3URL: http://www.national.com/pf/LM/LM3670.html; ComponentLink4Description: MF05A Package Page; ComponentLink4URL: http://www.national.com/packaging/folders/mf05a.html
footprint MF05A_N (SOT23, 5-Leads, Body 2.9x1.6mm, Pitch 0.95mm, Lead Span 2.8mm, IPC Medium Density)
footprint MF05A_L (SOT23, 5-Leads, Body 2.9x1.6mm, Pitch 0.95mm, Lead Span 2.8mm, IPC High Density)
footprint MF05A_M (SOT23, 5-Leads, Body 2.9x1.6mm, Pitch 0.95mm, Lead Span 2.8mm, IPC Low Density)
pins: 1 VIN (power), 2 GND (power), 3 EN (in), 4 FB (in), 5 SW (power)

## LM3670MFX-1.8/NOPB
designator U?
Miniature Step-Down DC-DC Converter for Ultra Low Voltage Circuits, 5-pin SOT-23, Pb-Free; PartNumber: LM3670MFX-1.8/NOPB; Manufacturer: National Semiconductor; PackageTopMarking: SDCB*XTT; PowerWise: Y; CompType: Switcher; DatasheetVersion: Jan-2006; PackageVersion: revD, Aug-2008; PackageReference: MF05A; PackageDescription: Molded SOT-23, .115 x .063 x .040 in Body, 5 Lead, .0375 in Pitch; RoHS: Y; PinCount: 5; High-Reliability: Y; ComponentLink1Description: Manufacturer URL; ComponentLink1URL: http://www.national.com/; ComponentLink2Description: LM3670 Datasheet; ComponentLink2URL: http://www.national.com/ds/LM/LM3670.pdf; ComponentLink3Description: LM3670 Web Page; ComponentLink3URL: http://www.national.com/pf/LM/LM3670.html; ComponentLink4Description: MF05A Package Page; ComponentLink4URL: http://www.national.com/packaging/folders/mf05a.html
footprint MF05A_N (SOT23, 5-Leads, Body 2.9x1.6mm, Pitch 0.95mm, Lead Span 2.8mm, IPC Medium Density)
footprint MF05A_L (SOT23, 5-Leads, Body 2.9x1.6mm, Pitch 0.95mm, Lead Span 2.8mm, IPC High Density)
footprint MF05A_M (SOT23, 5-Leads, Body 2.9x1.6mm, Pitch 0.95mm, Lead Span 2.8mm, IPC Low Density)
pins: 1 VIN (power), 2 GND (power), 3 EN (in), 4 FB (in), 5 SW (power)

## LM3670MFX-1.875
designator U?
Miniature Step-Down DC-DC Converter for Ultra Low Voltage Circuits, 5-pin SOT-23; PartNumber: LM3670MFX-1.875; Manufacturer: National Semiconductor; PackageTopMarking: SEFB*XTT; PowerWise: Y; CompType: Switcher; DatasheetVersion: Jan-2006; PackageVersion: revD, Aug-2008; PackageReference: MF05A; PackageDescription: Molded SOT-23, .115 x .063 x .040 in Body, 5 Lead, .0375 in Pitch; RoHS: N; PinCount: 5; High-Reliability: Y; ComponentLink1Description: Manufacturer URL; ComponentLink1URL: http://www.national.com/; ComponentLink2Description: LM3670 Datasheet; ComponentLink2URL: http://www.national.com/ds/LM/LM3670.pdf; ComponentLink3Description: LM3670 Web Page; ComponentLink3URL: http://www.national.com/pf/LM/LM3670.html; ComponentLink4Description: MF05A Package Page; ComponentLink4URL: http://www.national.com/packaging/folders/mf05a.html
footprint MF05A_N (SOT23, 5-Leads, Body 2.9x1.6mm, Pitch 0.95mm, Lead Span 2.8mm, IPC Medium Density)
footprint MF05A_L (SOT23, 5-Leads, Body 2.9x1.6mm, Pitch 0.95mm, Lead Span 2.8mm, IPC High Density)
footprint MF05A_M (SOT23, 5-Leads, Body 2.9x1.6mm, Pitch 0.95mm, Lead Span 2.8mm, IPC Low Density)
pins: 1 VIN (power), 2 GND (power), 3 EN (in), 4 FB (in), 5 SW (power)

## LM3670MFX-1.875/NOPB
designator U?
Miniature Step-Down DC-DC Converter for Ultra Low Voltage Circuits, 5-pin SOT-23, Pb-Free; PartNumber: LM3670MFX-1.875/NOPB; Manufacturer: National Semiconductor; PackageTopMarking: SEFB*XTT; PowerWise: Y; CompType: Switcher; DatasheetVersion: Jan-2006; PackageVersion: revD, Aug-2008; PackageReference: MF05A; PackageDescription: Molded SOT-23, .115 x .063 x .040 in Body, 5 Lead, .0375 in Pitch; RoHS: Y; PinCount: 5; High-Reliability: Y; ComponentLink1Description: Manufacturer URL; ComponentLink1URL: http://www.national.com/; ComponentLink2Description: LM3670 Datasheet; ComponentLink2URL: http://www.national.com/ds/LM/LM3670.pdf; ComponentLink3Description: LM3670 Web Page; ComponentLink3URL: http://www.national.com/pf/LM/LM3670.html; ComponentLink4Description: MF05A Package Page; ComponentLink4URL: http://www.national.com/packaging/folders/mf05a.html
footprint MF05A_N (SOT23, 5-Leads, Body 2.9x1.6mm, Pitch 0.95mm, Lead Span 2.8mm, IPC Medium Density)
footprint MF05A_L (SOT23, 5-Leads, Body 2.9x1.6mm, Pitch 0.95mm, Lead Span 2.8mm, IPC High Density)
footprint MF05A_M (SOT23, 5-Leads, Body 2.9x1.6mm, Pitch 0.95mm, Lead Span 2.8mm, IPC Low Density)
pins: 1 VIN (power), 2 GND (power), 3 EN (in), 4 FB (in), 5 SW (power)

## LM3670MFX-ADJ/NOPB
designator U?
Miniature Step-Down DC-DC Converter for Ultra Low Voltage Circuits, 5-pin SOT-23, Pb-Free; PartNumber: LM3670MFX-ADJ/NOPB; Manufacturer: National Semiconductor; PackageTopMarking: SDFB*XTT; PowerWise: Y; CompType: Switcher; DatasheetVersion: Jan-2006; PackageVersion: revD, Aug-2008; PackageReference: MF05A; PackageDescription: Molded SOT-23, .115 x .063 x .040 in Body, 5 Lead, .0375 in Pitch; RoHS: Y; PinCount: 5; High-Reliability: Y; ComponentLink1Description: Manufacturer URL; ComponentLink1URL: http://www.national.com/; ComponentLink2Description: LM3670 Datasheet; ComponentLink2URL: http://www.national.com/ds/LM/LM3670.pdf; ComponentLink3Description: LM3670 Web Page; ComponentLink3URL: http://www.national.com/pf/LM/LM3670.html; ComponentLink4Description: MF05A Package Page; ComponentLink4URL: http://www.national.com/packaging/folders/mf05a.html
footprint MF05A_N (SOT23, 5-Leads, Body 2.9x1.6mm, Pitch 0.95mm, Lead Span 2.8mm, IPC Medium Density)
footprint MF05A_L (SOT23, 5-Leads, Body 2.9x1.6mm, Pitch 0.95mm, Lead Span 2.8mm, IPC High Density)
footprint MF05A_M (SOT23, 5-Leads, Body 2.9x1.6mm, Pitch 0.95mm, Lead Span 2.8mm, IPC Low Density)
pins: 1 VIN (power), 2 GND (power), 3 EN (in), 4 FB (in), 5 SW (power)

## LM3743MM-300
designator U?
High-Performance Synchronous Buck Controller with Comprehensive Fault Protection Features, 10-pin MSOP; PartNumber: LM3743MM-300; Manufacturer: National Semiconductor; PackageTopMarking: ZXTT*SKPB; PowerWise: Y; CompType: Switcher; DatasheetVersion: Oct-2008; PackageVersion: revB, Jul-2003; PackageReference: MUB10A; PackageDescription: Mini-SO, Molded, .118 x .118 x .034in Body, 10 Lead, .0197in Pitch; RoHS: N; PinCount: 10; High-Reliability: Y; Code_JEDEC: MO-187-BA; ComponentLink1Description: Manufacturer URL; ComponentLink1URL: http://www.national.com/; ComponentLink2Description: LM3743 Datasheet; ComponentLink2URL: http://www.national.com/ds/LM/LM3743.pdf; ComponentLink3Description: LM3743 Web Page; ComponentLink3URL: http://www.national.com/pf/LM/LM3743.html; ComponentLink4Description: MUB10A Package Page; ComponentLink4URL: http://www.national.com/packaging/folders/mub10a.html
footprint MUB10A_N (TSSOP, 10-Leads, Body 3x3mm, Pitch 0.5mm, IPC Medium Density)
footprint MUB10A_L (TSSOP, 10-Leads, Body 3x3mm, Pitch 0.5mm, IPC High Density)
footprint MUB10A_M (TSSOP, 10-Leads, Body 3x3mm, Pitch 0.5mm, IPC Low Density)
pins: 1 VCC (power), 2 LG (out), 3 GND (power), 4 ILIM, 5 FB (in), 6 COMP/EN, 7 SS/TRACK (in), 8 SW (power), 9 HG (out), 10 BOOT

## LM3743MM-300/NOPB
designator U?
High-Performance Synchronous Buck Controller with Comprehensive Fault Protection Features, 10-pin MSOP, Pb-Free; PartNumber: LM3743MM-300/NOPB; Manufacturer: National Semiconductor; PackageTopMarking: ZXTT*SKPB; PowerWise: Y; CompType: Switcher; DatasheetVersion: Oct-2008; PackageVersion: revB, Jul-2003; PackageReference: MUB10A; PackageDescription: Mini-SO, Molded, .118 x .118 x .034in Body, 10 Lead, .0197in Pitch; RoHS: Y; PinCount: 10; High-Reliability: Y; Code_JEDEC: MO-187-BA; ComponentLink1Description: Manufacturer URL; ComponentLink1URL: http://www.national.com/; ComponentLink2Description: LM3743 Datasheet; ComponentLink2URL: http://www.national.com/ds/LM/LM3743.pdf; ComponentLink3Description: LM3743 Web Page; ComponentLink3URL: http://www.national.com/pf/LM/LM3743.html; ComponentLink4Description: MUB10A Package Page; ComponentLink4URL: http://www.national.com/packaging/folders/mub10a.html
footprint MUB10A_N (TSSOP, 10-Leads, Body 3x3mm, Pitch 0.5mm, IPC Medium Density)
footprint MUB10A_L (TSSOP, 10-Leads, Body 3x3mm, Pitch 0.5mm, IPC High Density)
footprint MUB10A_M (TSSOP, 10-Leads, Body 3x3mm, Pitch 0.5mm, IPC Low Density)
pins: 1 VCC (power), 2 LG (out), 3 GND (power), 4 ILIM, 5 FB (in), 6 COMP/EN, 7 SS/TRACK (in), 8 SW (power), 9 HG (out), 10 BOOT

## LM3743MM-1000
designator U?
High-Performance Synchronous Buck Controller with Comprehensive Fault Protection Features, 10-pin MSOP; PartNumber: LM3743MM-1000; Manufacturer: National Semiconductor; PackageTopMarking: ZXTT*SKNB; PowerWise: Y; CompType: Switcher; DatasheetVersion: Oct-2008; PackageVersion: revB, Jul-2003; PackageReference: MUB10A; PackageDescription: Mini-SO, Molded, .118 x .118 x .034in Body, 10 Lead, .0197in Pitch; RoHS: N; PinCount: 10; High-Reliability: Y; Code_JEDEC: MO-187-BA; ComponentLink1Description: Manufacturer URL; ComponentLink1URL: http://www.national.com/; ComponentLink2Description: LM3743 Datasheet; ComponentLink2URL: http://www.national.com/ds/LM/LM3743.pdf; ComponentLink3Description: LM3743 Web Page; ComponentLink3URL: http://www.national.com/pf/LM/LM3743.html; ComponentLink4Description: MUB10A Package Page; ComponentLink4URL: http://www.national.com/packaging/folders/mub10a.html
footprint MUB10A_N (TSSOP, 10-Leads, Body 3x3mm, Pitch 0.5mm, IPC Medium Density)
footprint MUB10A_L (TSSOP, 10-Leads, Body 3x3mm, Pitch 0.5mm, IPC High Density)
footprint MUB10A_M (TSSOP, 10-Leads, Body 3x3mm, Pitch 0.5mm, IPC Low Density)
pins: 1 VCC (power), 2 LG (out), 3 GND (power), 4 ILIM, 5 FB (in), 6 COMP/EN, 7 SS/TRACK (in), 8 SW (power), 9 HG (out), 10 BOOT

## LM3743MM-1000/NOPB
designator U?
High-Performance Synchronous Buck Controller with Comprehensive Fault Protection Features, 10-pin MSOP, Pb-Free; PartNumber: LM3743MM-1000/NOPB; Manufacturer: National Semiconductor; PackageTopMarking: ZXTT*SKNB; PowerWise: Y; CompType: Switcher; DatasheetVersion: Oct-2008; PackageVersion: revB, Jul-2003; PackageReference: MUB10A; PackageDescription: Mini-SO, Molded, .118 x .118 x .034in Body, 10 Lead, .0197in Pitch; RoHS: Y; PinCount: 10; High-Reliability: Y; Code_JEDEC: MO-187-BA; ComponentLink1Description: Manufacturer URL; ComponentLink1URL: http://www.national.com/; ComponentLink2Description: LM3743 Datasheet; ComponentLink2URL: http://www.national.com/ds/LM/LM3743.pdf; ComponentLink3Description: LM3743 Web Page; ComponentLink3URL: http://www.national.com/pf/LM/LM3743.html; ComponentLink4Description: MUB10A Package Page; ComponentLink4URL: http://www.national.com/packaging/folders/mub10a.html
footprint MUB10A_N (TSSOP, 10-Leads, Body 3x3mm, Pitch 0.5mm, IPC Medium Density)
footprint MUB10A_L (TSSOP, 10-Leads, Body 3x3mm, Pitch 0.5mm, IPC High Density)
footprint MUB10A_M (TSSOP, 10-Leads, Body 3x3mm, Pitch 0.5mm, IPC Low Density)
pins: 1 VCC (power), 2 LG (out), 3 GND (power), 4 ILIM, 5 FB (in), 6 COMP/EN, 7 SS/TRACK (in), 8 SW (power), 9 HG (out), 10 BOOT

## LM3743MMX-300
designator U?
High-Performance Synchronous Buck Controller with Comprehensive Fault Protection Features, 10-pin MSOP; PartNumber: LM3743MMX-300; Manufacturer: National Semiconductor; PackageTopMarking: ZXTT*SKPB; PowerWise: Y; CompType: Switcher; DatasheetVersion: Oct-2008; PackageVersion: revB, Jul-2003; PackageReference: MUB10A; PackageDescription: Mini-SO, Molded, .118 x .118 x .034in Body, 10 Lead, .0197in Pitch; RoHS: N; PinCount: 10; High-Reliability: Y; Code_JEDEC: MO-187-BA; ComponentLink1Description: Manufacturer URL; ComponentLink1URL: http://www.national.com/; ComponentLink2Description: LM3743 Datasheet; ComponentLink2URL: http://www.national.com/ds/LM/LM3743.pdf; ComponentLink3Description: LM3743 Web Page; ComponentLink3URL: http://www.national.com/pf/LM/LM3743.html; ComponentLink4Description: MUB10A Package Page; ComponentLink4URL: http://www.national.com/packaging/folders/mub10a.html
footprint MUB10A_N (TSSOP, 10-Leads, Body 3x3mm, Pitch 0.5mm, IPC Medium Density)
footprint MUB10A_L (TSSOP, 10-Leads, Body 3x3mm, Pitch 0.5mm, IPC High Density)
footprint MUB10A_M (TSSOP, 10-Leads, Body 3x3mm, Pitch 0.5mm, IPC Low Density)
pins: 1 VCC (power), 2 LG (out), 3 GND (power), 4 ILIM, 5 FB (in), 6 COMP/EN, 7 SS/TRACK (in), 8 SW (power), 9 HG (out), 10 BOOT

## LM3743MMX-300/NOPB
designator U?
High-Performance Synchronous Buck Controller with Comprehensive Fault Protection Features, 10-pin MSOP, Pb-Free; PartNumber: LM3743MMX-300/NOPB; Manufacturer: National Semiconductor; PackageTopMarking: ZXTT*SKPB; PowerWise: Y; CompType: Switcher; DatasheetVersion: Oct-2008; PackageVersion: revB, Jul-2003; PackageReference: MUB10A; PackageDescription: Mini-SO, Molded, .118 x .118 x .034in Body, 10 Lead, .0197in Pitch; RoHS: Y; PinCount: 10; High-Reliability: Y; Code_JEDEC: MO-187-BA; ComponentLink1Description: Manufacturer URL; ComponentLink1URL: http://www.national.com/; ComponentLink2Description: LM3743 Datasheet; ComponentLink2URL: http://www.national.com/ds/LM/LM3743.pdf; ComponentLink3Description: LM3743 Web Page; ComponentLink3URL: http://www.national.com/pf/LM/LM3743.html; ComponentLink4Description: MUB10A Package Page; ComponentLink4URL: http://www.national.com/packaging/folders/mub10a.html
footprint MUB10A_N (TSSOP, 10-Leads, Body 3x3mm, Pitch 0.5mm, IPC Medium Density)
footprint MUB10A_L (TSSOP, 10-Leads, Body 3x3mm, Pitch 0.5mm, IPC High Density)
footprint MUB10A_M (TSSOP, 10-Leads, Body 3x3mm, Pitch 0.5mm, IPC Low Density)
pins: 1 VCC (power), 2 LG (out), 3 GND (power), 4 ILIM, 5 FB (in), 6 COMP/EN, 7 SS/TRACK (in), 8 SW (power), 9 HG (out), 10 BOOT

## LM3743MMX-1000
designator U?
High-Performance Synchronous Buck Controller with Comprehensive Fault Protection Features, 10-pin MSOP; PartNumber: LM3743MMX-1000; Manufacturer: National Semiconductor; PackageTopMarking: ZXTT*SKNB; PowerWise: Y; CompType: Switcher; DatasheetVersion: Oct-2008; PackageVersion: revB, Jul-2003; PackageReference: MUB10A; PackageDescription: Mini-SO, Molded, .118 x .118 x .034in Body, 10 Lead, .0197in Pitch; RoHS: N; PinCount: 10; High-Reliability: Y; Code_JEDEC: MO-187-BA; ComponentLink1Description: Manufacturer URL; ComponentLink1URL: http://www.national.com/; ComponentLink2Description: LM3743 Datasheet; ComponentLink2URL: http://www.national.com/ds/LM/LM3743.pdf; ComponentLink3Description: LM3743 Web Page; ComponentLink3URL: http://www.national.com/pf/LM/LM3743.html; ComponentLink4Description: MUB10A Package Page; ComponentLink4URL: http://www.national.com/packaging/folders/mub10a.html
footprint MUB10A_N (TSSOP, 10-Leads, Body 3x3mm, Pitch 0.5mm, IPC Medium Density)
footprint MUB10A_L (TSSOP, 10-Leads, Body 3x3mm, Pitch 0.5mm, IPC High Density)
footprint MUB10A_M (TSSOP, 10-Leads, Body 3x3mm, Pitch 0.5mm, IPC Low Density)
pins: 1 VCC (power), 2 LG (out), 3 GND (power), 4 ILIM, 5 FB (in), 6 COMP/EN, 7 SS/TRACK (in), 8 SW (power), 9 HG (out), 10 BOOT

## LM3743MMX-1000/NOPB
designator U?
High-Performance Synchronous Buck Controller with Comprehensive Fault Protection Features, 10-pin MSOP, Pb-Free; PartNumber: LM3743MMX-1000/NOPB; Manufacturer: National Semiconductor; PackageTopMarking: ZXTT*SKNB; PowerWise: Y; CompType: Switcher; DatasheetVersion: Oct-2008; PackageVersion: revB, Jul-2003; PackageReference: MUB10A; PackageDescription: Mini-SO, Molded, .118 x .118 x .034in Body, 10 Lead, .0197in Pitch; RoHS: Y; PinCount: 10; High-Reliability: Y; Code_JEDEC: MO-187-BA; ComponentLink1Description: Manufacturer URL; ComponentLink1URL: http://www.national.com/; ComponentLink2Description: LM3743 Datasheet; ComponentLink2URL: http://www.national.com/ds/LM/LM3743.pdf; ComponentLink3Description: LM3743 Web Page; ComponentLink3URL: http://www.national.com/pf/LM/LM3743.html; ComponentLink4Description: MUB10A Package Page; ComponentLink4URL: http://www.national.com/packaging/folders/mub10a.html
footprint MUB10A_N (TSSOP, 10-Leads, Body 3x3mm, Pitch 0.5mm, IPC Medium Density)
footprint MUB10A_L (TSSOP, 10-Leads, Body 3x3mm, Pitch 0.5mm, IPC High Density)
footprint MUB10A_M (TSSOP, 10-Leads, Body 3x3mm, Pitch 0.5mm, IPC Low Density)
pins: 1 VCC (power), 2 LG (out), 3 GND (power), 4 ILIM, 5 FB (in), 6 COMP/EN, 7 SS/TRACK (in), 8 SW (power), 9 HG (out), 10 BOOT

## LM3753SQ/NOPB
designator U?
Scalable 2-Phase Synchronous Buck Controllers with Integrated FET Drivers and Linear Regulator Controller, 32-pin LLP, Pb-Free; PartNumber: LM3753SQ/NOPB; Manufacturer: National Semiconductor; PackageTopMarking: NS*UZXYTT*LM3753; PowerWise: Y; CompType: Switcher; DatasheetVersion: Dec-2009; PackageVersion: revB, Oct-2009; PackageReference: SQA32A; PackageDescription: LLP, Quad, 5 x 5 x 0.8mm, 32 Lead, 0.5mm Pitch, No Pullback 3.1 x 3.1 Exposed Pad; RoHS: Y; PinCount: 32; High-Reliability: Y; ComponentLink1Description: Manufacturer URL; ComponentLink1URL: http://www.national.com/; ComponentLink2Description: LM3753 Datasheet; ComponentLink2URL: http://www.national.com/ds/LM/LM3753.pdf; ComponentLink3Description: LM3753 Web Page; ComponentLink3URL: http://www.national.com/pf/LM/LM3753.html; ComponentLink4Description: SQA32A Package Page; ComponentLink4URL: http://www.national.com/packaging/folders/sqa32a.html
footprint SQA32A (QFN, 32-Leads, Body 5x5mm, Pitch 0.5mm, Thermal Pad 3.2x3.2mm, NSC Recommended)
pins: 1 HG2 (out), 2 SW2 (in), 3 LG2 (out), 4 VDD (power), 5 PGND (power), 6 LG1 (out), 7 SW1 (in), 8 HG1 (out), 9 BOOT1 (in), 10 PGOOD (oc), 11 SYNCOUT (out), 12 SYNC (in), 13 ~{FAULT} (io), 14 NBASE, 15 VIN (in), 16 VCC (power), 17 SGND (power), 18 COMP (out), 19 FB (in), 20 VDIF (out), 21 SNSM (in), 22 SNSP (in), 23 TRACK (in), 24 FREQ (in), 25 IAVE (in), 26 EN (in), 27 CS2 (in), 28 ILIM (in), 29 CSM (in), 30 CS1 (in), 31 PH (in), 32 BOOT2 (in), 33 DAP (power)

## LM3753SQX/NOPB
designator U?
Scalable 2-Phase Synchronous Buck Controllers with Integrated FET Drivers and Linear Regulator Controller, 32-pin LLP, Pb-Free; PartNumber: LM3753SQX/NOPB; Manufacturer: National Semiconductor; PackageTopMarking: NS*UZXYTT*LM3753; PowerWise: Y; CompType: Switcher; DatasheetVersion: Dec-2009; PackageVersion: revB, Oct-2009; PackageReference: SQA32A; PackageDescription: LLP, Quad, 5 x 5 x 0.8mm, 32 Lead, 0.5mm Pitch, No Pullback 3.1 x 3.1 Exposed Pad; RoHS: Y; PinCount: 32; High-Reliability: Y; ComponentLink1Description: Manufacturer URL; ComponentLink1URL: http://www.national.com/; ComponentLink2Description: LM3753 Datasheet; ComponentLink2URL: http://www.national.com/ds/LM/LM3753.pdf; ComponentLink3Description: LM3753 Web Page; ComponentLink3URL: http://www.national.com/pf/LM/LM3753.html; ComponentLink4Description: SQA32A Package Page; ComponentLink4URL: http://www.national.com/packaging/folders/sqa32a.html
footprint SQA32A (QFN, 32-Leads, Body 5x5mm, Pitch 0.5mm, Thermal Pad 3.2x3.2mm, NSC Recommended)
pins: 1 HG2 (out), 2 SW2 (in), 3 LG2 (out), 4 VDD (power), 5 PGND (power), 6 LG1 (out), 7 SW1 (in), 8 HG1 (out), 9 BOOT1 (in), 10 PGOOD (oc), 11 SYNCOUT (out), 12 SYNC (in), 13 ~{FAULT} (io), 14 NBASE, 15 VIN (in), 16 VCC (power), 17 SGND (power), 18 COMP (out), 19 FB (in), 20 VDIF (out), 21 SNSM (in), 22 SNSP (in), 23 TRACK (in), 24 FREQ (in), 25 IAVE (in), 26 EN (in), 27 CS2 (in), 28 ILIM (in), 29 CSM (in), 30 CS1 (in), 31 PH (in), 32 BOOT2 (in), 33 DAP (power)